# EAGLE library part 929850-01-10-RA (library Connectors)
CONN RCPT 10POS 0.1 GOLD PCB Manufacturer's datasheet <http://multimedia.3m.com/mws/media/22500O/3mtm-boardmount-skt-100-100x-100strt-sldr-tails-ts0815.pdf>
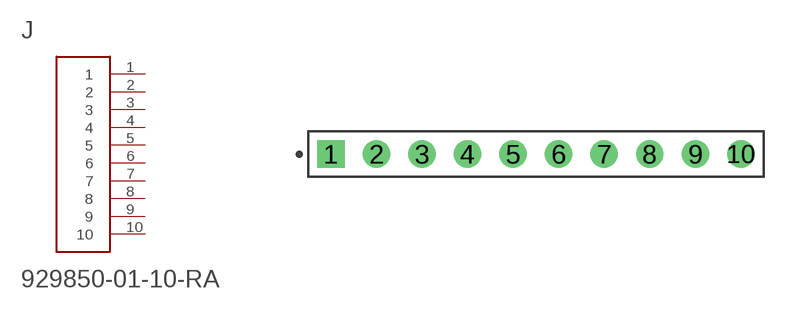
[diagram p4: symbol with the pads of 929850-01-10-RA; footprint 929850-01-10-RA]

Designator prefix J

## 929850-01-10-RA (CREATED_BY: PCBLayout.com; DIGIKEY_PART_NUMBER: 929850E-01-10-ND; MANUFACTURER: 3M; MPN: 929850-01-10-RA)  [929850-01-10-RA]
1  1  pas
2  2  pas
3  3  pas
4  4  pas
5  5  pas
6  6  pas
7  7  pas
8  8  pas
9  9  pas
10  10  pas

## Footprint 929850-01-10-RA (pad centres in mm)
drill 1.02 square: 1 -11.43,0
drill 1.02: 2 -8.89,0; 3 -6.35,0; 4 -3.81,0; 5 -1.27,0; 6 1.27,0; 7 3.81,0; 8 6.35,0; 9 8.89,0; 10 11.43,0